# EAGLE library part 1X10 (library con-pinhead-2mm)
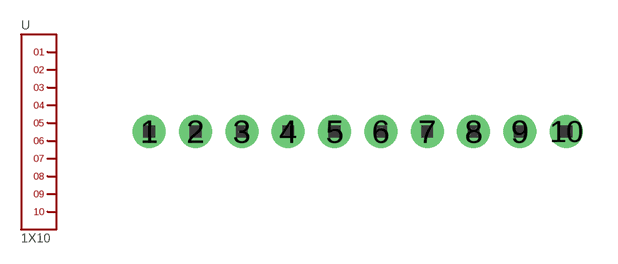
[diagram p12: symbol with the pads of 1X10; footprint 1X10]

Designator prefix -

## 1X10  [1X10]
1  1
2  2
3  3
4  4
5  5
6  6
7  7
8  8
9  9
10  10

## Footprint 1X10 (pad centres in mm)
drill 0.8 pad 1.422: 1 -9,0; 2 -7,0; 3 -5,0; 4 -3,0; 5 -1,0; 6 1,0; 7 3,0; 8 5,0; 9 7,0; 10 9,0